# Altium footprint library Res_Panasonic_ERJ-2GEJ104X_eec_0.PcbLib: 1 footprints
Each footprint in its own frame and in the unit in brackets; x right, y up, seen from the top. Pads: shape width x height; smd on the part's side, far side on the other; paste and mask are expansions set on the pad; w line width, h text height; cw(c..) or ccw(c..) is an arc to the next point about the centre after c.
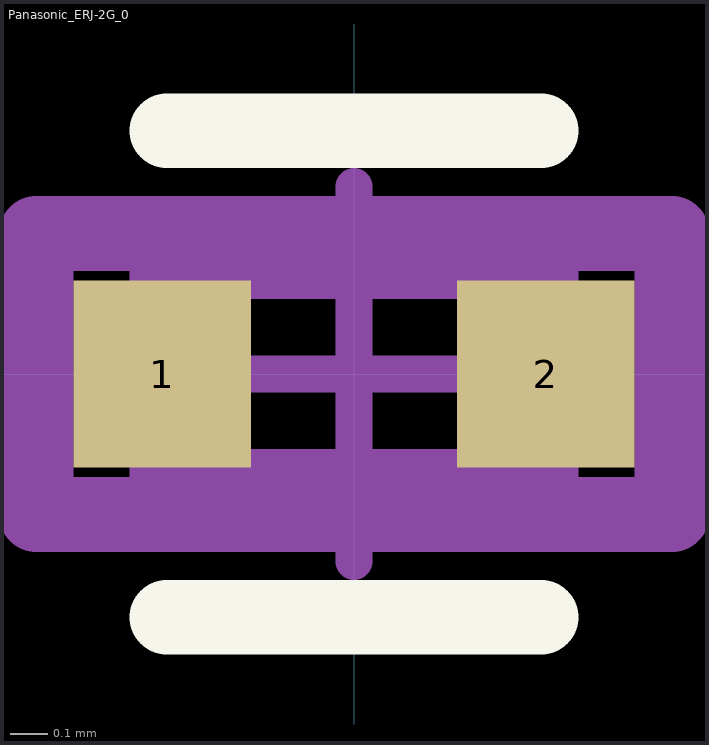
[diagram p0: the footprint, top view; thin cyan lines are the x and y axes]

## Panasonic_ERJ-2G_0 [mm]
pads (2):
  rect 0.475x0.5 smd paste+0 mask+0: 1(-0.512,0) 2(0.512,0)
Top Overlay:
  lines w0.2: -0.5,-0.65 0.5,-0.65 ; -0.5,0.65 0.5,0.65
Mechanical 10:
  lines w0.2: -0.85,-0.375 0.85,-0.375 0.85,0.375 -0.85,0.375 -0.85,-0.375
  text ".Designator" at 0,0 h1
Mechanical 12:
  lines w0.15: -0.525,-0.275 0.525,-0.275 0.525,0.275 -0.525,0.275 -0.525,-0.275
Mechanical 15:
  lines w0.1: -0.5,0 0.5,0 -0.5,0 ; 0,-0.5 0,0.5 0,-0.5
  lines w0.2: -0.85,-0.375 0.85,-0.375 0.85,0.375 -0.85,0.375 -0.85,-0.375
3D body "Res_Panasonic_ERJ-2GEJ104X_eec.STEP": height 0.25, standoff 0, extent -0.85,-0.375 0.85,0.375